# Altium footprint library 691101710002.PcbLib: 1 footprints
Each footprint in its own frame and in the unit in brackets; x right, y up, seen from the top. Pads: shape width x height; smd on the part's side, far side on the other; paste and mask are expansions set on the pad; w line width, h text height; cw(c..) or ccw(c..) is an arc to the next point about the centre after c.
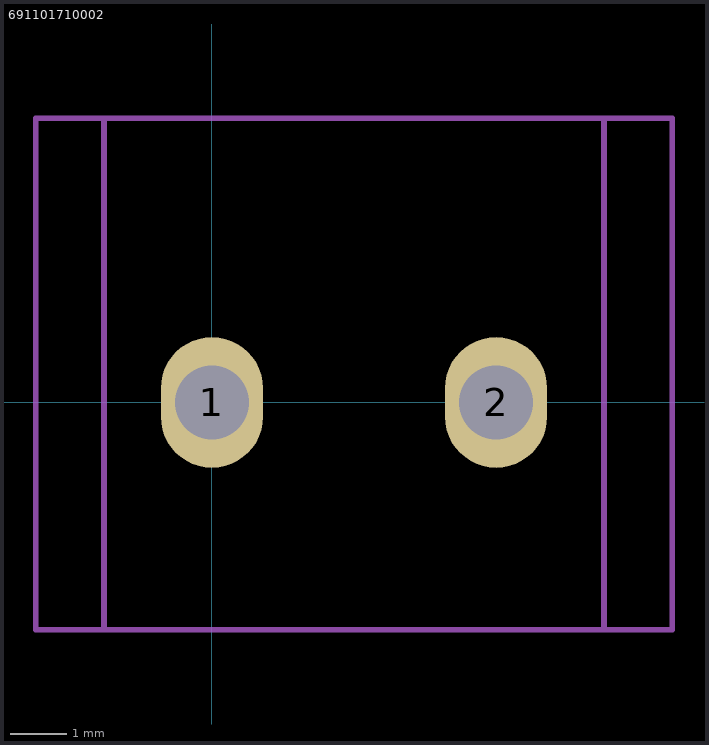
[diagram p0: the footprint, top view; thin cyan lines are the x and y axes]

## 691101710002 [mm]
pads (2):
  oval 1.8x2.3 hole 1.3 mask+0.05: 1(0,0) 2(5,0)
Top Assembly:
  lines w0.1: -1.9,-4 -1.9,5 ; 6.9,-4 6.9,5 ; -3.1,-4 8.1,-4 8.1,5 -3.1,5 -3.1,-4
  text "PCB EDGE" at -0.599,-3.818 h2
Top Courtyard:
  lines w0.1: -3.1,-4 8.1,-4 8.1,5 -3.1,5 -3.1,-4
3D body "691101710002 (rev1).stp": height 12.5, standoff -3.9, extent -3.1,-4 8.1,5